# Altium footprint library PCB - DIODES - TI SOD-523 DYA0002A.PCBLIB: 1 footprints
Each footprint in its own frame and in the unit in brackets; x right, y up, seen from the top. Pads: shape width x height; smd on the part's side, far side on the other; paste and mask are expansions set on the pad; w line width, h text height; cw(c..) or ccw(c..) is an arc to the next point about the centre after c.
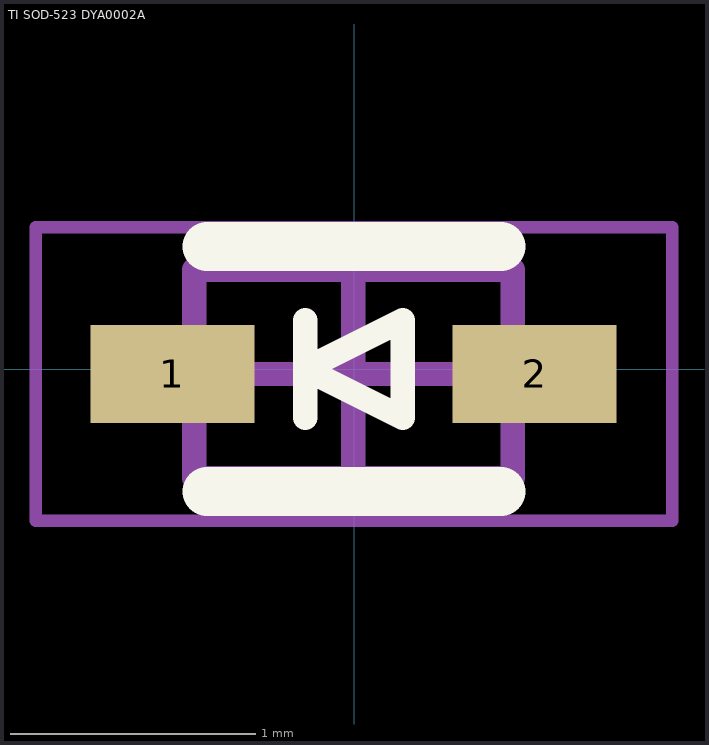
[diagram p0: the footprint, top view; thin cyan lines are the x and y axes]

## TI SOD-523 DYA0002A [mm] "SODFL, 2-Leads, Body 0.80x1.60mm"
height 0.77
pads (2):
  rect 0.67x0.4 smd: 1(-0.742,-0.02) 2(0.738,-0.02)
Top Overlay:
  lines w0.1: -0.2,-0.2 -0.2,0.2 ; -0.2,0 0.2,0.2 0.2,-0.2 -0.2,0
  lines w0.2: -0.6,-0.5 0.6,-0.5 ; -0.6,0.5 0.6,0.5
Mechanical 13:
  lines w0.1: -0.652,-0.445 -0.652,0.405 0.648,0.405 0.648,-0.445 -0.652,-0.445
Mechanical 15:
  lines w0.05: -1.3,-0.62 -1.3,0.58 1.3,0.58 1.3,-0.62 -1.3,-0.62
  lines w0.1: -0.602,-0.02 0.398,-0.02 ; -0.002,-0.52 -0.002,0.48
3D body "SOD523F.STEP": height 0.65, standoff 0, extent -0.802,-0.421 0.798,0.379